# Altium footprint library ST-Microelectronics Footprints.PcbLib: 320 footprints (part 11 of 20)
Each footprint in its own frame and in the unit in brackets; x right, y up, seen from the top. Pads: shape width x height; smd on the part's side, far side on the other; paste and mask are expansions set on the pad; w line width, h text height; cw(c..) or ccw(c..) is an arc to the next point about the centre after c.
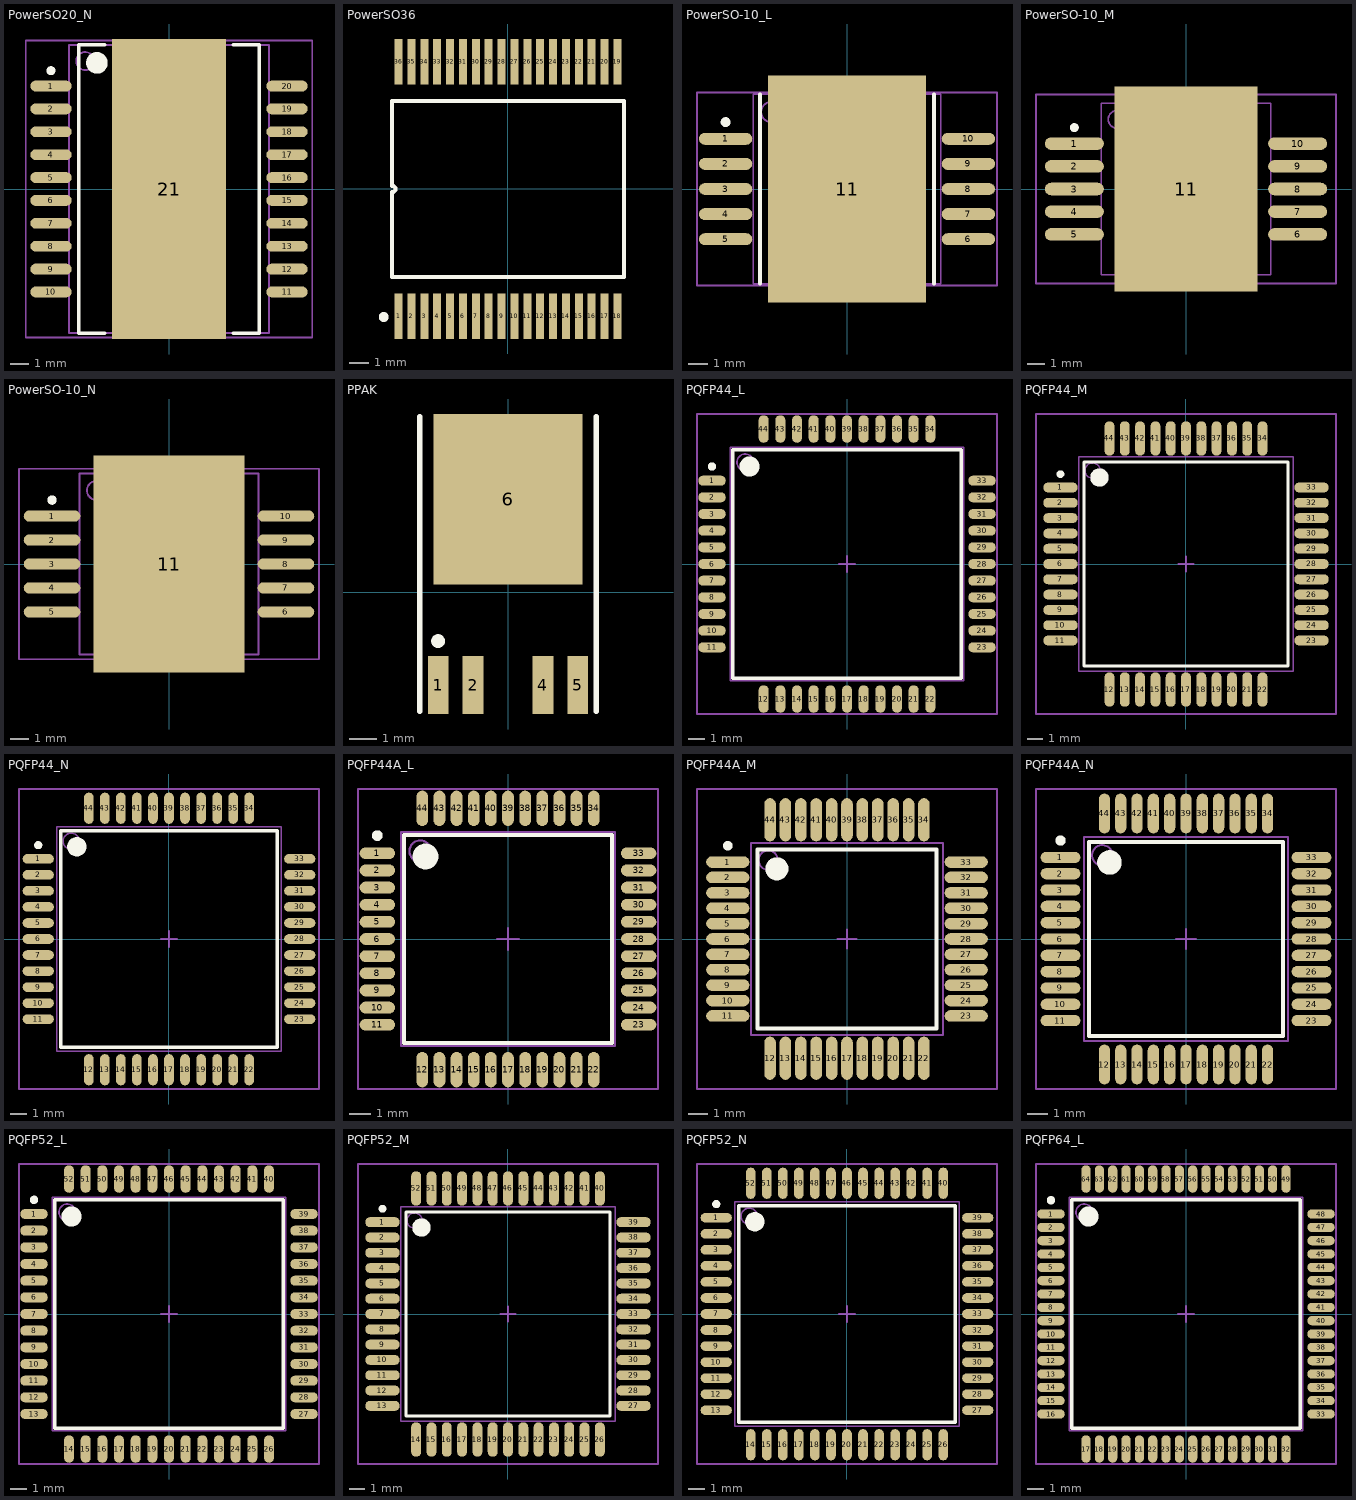
[diagram p10: the footprints below, top view; thin cyan lines are the x and y axes]

## PowerSO20_N [mm] "20-Pin Small Outline Package 1.27 mm Pitch, IPC Medium Density"
height 3.6
pads (21):
  oval 2.3x0.6 smd: 1(-6.55,5.715) 2(-6.55,4.445) 3(-6.55,3.175) 4(-6.55,1.905) 5(-6.55,0.635) 6(-6.55,-0.635) 7(-6.55,-1.905) 8(-6.55,-3.175) 9(-6.55,-4.445) 10(-6.55,-5.715) 11(6.55,-5.715) 12(6.55,-4.445) 13(6.55,-3.175) 14(6.55,-1.905) 15(6.55,-0.635) 16(6.55,0.635) 17(6.55,1.905) 18(6.55,3.175) 19(6.55,4.445) 20(6.55,5.715)
  rect 6.35x16.65 smd: 21(0,0)
Top Overlay:
  circle w0.25: c-6.55,6.565 r0.125
  circle w0.6: c-4,7 r0.3
  lines w0.2: -3.575,-8 -5,-8 -5,8 -3.575,8 ; 3.575,-8 5,-8 5,8 3.575,8
Mechanical 13:
  circle w0.1: c-4.65,7.1 r0.5
  lines w0.1: -5.55,-8 -5.55,8 5.55,8 5.55,-8 -5.55,-8
Mechanical 15:
  lines w0.1: -0.5,0 0.5,0 ; 0,-0.5 0,0.5 ; -7.95,-8.25 -7.95,8.25 7.95,8.25 7.95,-8.25 -7.95,-8.25
3D body: height 3.6, standoff 0, extent -5.55,-8 5.55,8

## PowerSO36 [mm] "SSOP; 36 Leads; Body Width 11 mm; Pitch 0.65 mm"
height 3.6
pads (36):
  rect 0.4x2.3 smd: 1(-5.525,-6.425) 2(-4.875,-6.425) 3(-4.225,-6.425) 4(-3.575,-6.425) 5(-2.925,-6.425) 6(-2.275,-6.425) 7(-1.625,-6.425) 8(-0.975,-6.425) 9(-0.325,-6.425) 10(0.325,-6.425) 11(0.975,-6.425) 12(1.625,-6.425) 13(2.275,-6.425) 14(2.925,-6.425) 15(3.575,-6.425) 16(4.225,-6.425) 17(4.875,-6.425) 18(5.525,-6.425) 19(5.525,6.425) 20(4.875,6.425) 21(4.225,6.425) 22(3.575,6.425) 23(2.925,6.425) 24(2.275,6.425) 25(1.625,6.425) 26(0.975,6.425) 27(0.325,6.425) 28(-0.325,6.425) 29(-0.975,6.425) 30(-1.625,6.425) 31(-2.275,6.425) 32(-2.925,6.425) 33(-3.575,6.425) 34(-4.225,6.425) 35(-4.875,6.425) 36(-5.525,6.425)
Top Overlay:
  circle w0.25: c-6.275,-6.465 r0.125
  lines w0.2: -5.85,-4.44 5.85,-4.44 5.85,4.44 -5.85,4.44 -5.85,0.162 cw(c-5.85,0) -5.85,-0.162 -5.85,-4.44

## PowerSO-10_L [mm] "10-Pin Small Outline Package 1.27 mm Pitch, IPC High Density"
height 3.71
pads (11):
  oval 2.7x0.6 smd: 1(-6.15,2.54) 2(-6.15,1.27) 3(-6.15,0) 4(-6.15,-1.27) 5(-6.15,-2.54) 6(6.15,-2.54) 7(6.15,-1.27) 8(6.15,0) 9(6.15,1.27) 10(6.15,2.54)
  rect 8x11.5 smd: 11(0,0)
Top Overlay:
  circle w0.25: c-6.15,3.39 r0.125
  lines w0.2: -4.4,-4.8 -4.4,4.8 ; 4.4,-4.8 4.4,4.8
Mechanical 13:
  circle w0.1: c-3.85,3.9 r0.5
  lines w0.1: -4.75,-4.8 4.75,-4.8 4.75,4.8 -4.75,4.8 -4.75,-4.8
Mechanical 15:
  lines w0.1: -0.5,0 0.5,0 ; 0,-0.5 0,0.5 ; -7.6,-4.9 7.6,-4.9 7.6,4.9 -7.6,4.9 -7.6,-4.9
3D body: height 3.71, standoff 0, extent -4.75,-4.8 4.75,4.8

## PowerSO-10_M [mm] "10-Pin Small Outline Package 1.27 mm Pitch, IPC Low Density"
height 3.71
pads (11):
  oval 3.3x0.7 smd: 1(-6.25,2.54) 2(-6.25,1.27) 3(-6.25,0) 4(-6.25,-1.27) 5(-6.25,-2.54) 6(6.25,-2.54) 7(6.25,-1.27) 8(6.25,0) 9(6.25,1.27) 10(6.25,2.54)
  rect 8x11.5 smd: 11(0,0)
Top Overlay:
  circle w0.25: c-6.25,3.44 r0.125
Mechanical 13:
  circle w0.1: c-3.85,3.9 r0.5
  lines w0.1: -4.75,-4.8 -4.75,4.8 4.75,4.8 4.75,-4.8 -4.75,-4.8
Mechanical 15:
  lines w0.1: -0.5,0 0.5,0 ; 0,-0.5 0,0.5 ; -8.4,-5.3 -8.4,5.3 8.4,5.3 8.4,-5.3 -8.4,-5.3
3D body: height 3.71, standoff 0, extent -4.75,-4.8 4.75,4.8

## PowerSO-10_N [mm] "10-Pin Small Outline Package 1.27 mm Pitch, IPC Medium Density"
height 3.71
pads (11):
  oval 3x0.6 smd: 1(-6.2,2.54) 2(-6.2,1.27) 3(-6.2,0) 4(-6.2,-1.27) 5(-6.2,-2.54) 6(6.2,-2.54) 7(6.2,-1.27) 8(6.2,0) 9(6.2,1.27) 10(6.2,2.54)
  rect 8x11.5 smd: 11(0,0)
Top Overlay:
  circle w0.25: c-6.2,3.39 r0.125
Mechanical 13:
  circle w0.1: c-3.85,3.9 r0.5
  lines w0.1: -4.75,-4.8 -4.75,4.8 4.75,4.8 4.75,-4.8 -4.75,-4.8
Mechanical 15:
  lines w0.1: -0.5,0 0.5,0 ; 0,-0.5 0,0.5 ; -7.95,-5.05 -7.95,5.05 7.95,5.05 7.95,-5.05 -7.95,-5.05
3D body: height 3.71, standoff 0, extent -4.75,-4.8 4.75,4.8

## PPAK [mm] "D-PAK; 5 Leads (1 Cropped); Body 10.1 (inc. leads) x 6.6 mm (LxW max)"
height 2.4
pads (5):
  rect 0.75x2.1 smd: 1(-2.54,-3.375) 2(-1.27,-3.375) 4(1.27,-3.375) 5(2.54,-3.375)
  rect 5.4x6.2 smd: 6(0,3.375)
Top Overlay:
  circle w0.25: c-2.54,-1.775 r0.125
  lines w0.2: -3.215,-4.325 -3.215,6.375 ; 3.215,-4.325 3.215,6.375

## PQFP44_L [mm] "44-Pin Quad Flat Pack 1 mm Pitch, IPC High Density"
height 3.4
pads (44):
  oval 1.65x0.6 smd: 1(-8.1,5) 2(-8.1,4) 3(-8.1,3) 4(-8.1,2) 5(-8.1,1) 6(-8.1,0) 7(-8.1,-1) 8(-8.1,-2) 9(-8.1,-3) 10(-8.1,-4) 11(-8.1,-5) 23(8.1,-5) 24(8.1,-4) 25(8.1,-3) 26(8.1,-2) 27(8.1,-1) 28(8.1,0) 29(8.1,1) 30(8.1,2) 31(8.1,3) 32(8.1,4) 33(8.1,5)
  oval 0.6x1.65 smd: 12(-5,-8.1) 13(-4,-8.1) 14(-3,-8.1) 15(-2,-8.1) 16(-1,-8.1) 17(0,-8.1) 18(1,-8.1) 19(2,-8.1) 20(3,-8.1) 21(4,-8.1) 22(5,-8.1) 34(5,8.1) 35(4,8.1) 36(3,8.1) 37(2,8.1) 38(1,8.1) 39(0,8.1) 40(-1,8.1) 41(-2,8.1) 42(-3,8.1) 43(-4,8.1) 44(-5,8.1)
Top Overlay:
  circle w0.6: c-5.85,5.85 r0.3
  circle w0.25: c-8.1,5.85 r0.125
  lines w0.2: -6.85,-6.85 6.85,-6.85 6.85,6.85 -6.85,6.85 -6.85,-6.85
Mechanical 13:
  circle w0.1: c-6.1,6.1 r0.5
  lines w0.1: -7,-7 7,-7 7,7 -7,7 -7,-7
Mechanical 15:
  lines w0.1: -0.5,0 0.5,0 ; 0,-0.5 0,0.5 ; -9,-9 9,-9 9,9 -9,9 -9,-9
3D body: height 3.4, standoff 0, extent -7,-7 7,7

## PQFP44_M [mm] "44-Pin Quad Flat Pack 1 mm Pitch, IPC Low Density"
height 3.4
pads (44):
  oval 2.25x0.65 smd: 1(-8.2,5) 2(-8.2,4) 3(-8.2,3) 4(-8.2,2) 5(-8.2,1) 6(-8.2,0) 7(-8.2,-1) 8(-8.2,-2) 9(-8.2,-3) 10(-8.2,-4) 11(-8.2,-5) 23(8.2,-5) 24(8.2,-4) 25(8.2,-3) 26(8.2,-2) 27(8.2,-1) 28(8.2,0) 29(8.2,1) 30(8.2,2) 31(8.2,3) 32(8.2,4) 33(8.2,5)
  oval 0.65x2.25 smd: 12(-5,-8.2) 13(-4,-8.2) 14(-3,-8.2) 15(-2,-8.2) 16(-1,-8.2) 17(0,-8.2) 18(1,-8.2) 19(2,-8.2) 20(3,-8.2) 21(4,-8.2) 22(5,-8.2) 34(5,8.2) 35(4,8.2) 36(3,8.2) 37(2,8.2) 38(1,8.2) 39(0,8.2) 40(-1,8.2) 41(-2,8.2) 42(-3,8.2) 43(-4,8.2) 44(-5,8.2)
Top Overlay:
  circle w0.6: c-5.65,5.65 r0.3
  circle w0.25: c-8.2,5.875 r0.125
  lines w0.2: -6.65,-6.65 6.65,-6.65 6.65,6.65 -6.65,6.65 -6.65,-6.65
Mechanical 13:
  circle w0.1: c-6.1,6.1 r0.5
  lines w0.1: -7,-7 7,-7 7,7 -7,7 -7,-7
Mechanical 15:
  lines w0.1: -0.5,0 0.5,0 ; 0,-0.5 0,0.5 ; -9.8,-9.8 9.8,-9.8 9.8,9.8 -9.8,9.8 -9.8,-9.8
3D body: height 3.4, standoff 0, extent -7,-7 7,7

## PQFP44_N [mm] "44-Pin Quad Flat Pack 1 mm Pitch, IPC Medium Density"
height 3.4
pads (44):
  oval 1.95x0.6 smd: 1(-8.15,5) 2(-8.15,4) 3(-8.15,3) 4(-8.15,2) 5(-8.15,1) 6(-8.15,0) 7(-8.15,-1) 8(-8.15,-2) 9(-8.15,-3) 10(-8.15,-4) 11(-8.15,-5) 23(8.15,-5) 24(8.15,-4) 25(8.15,-3) 26(8.15,-2) 27(8.15,-1) 28(8.15,0) 29(8.15,1) 30(8.15,2) 31(8.15,3) 32(8.15,4) 33(8.15,5)
  oval 0.6x1.95 smd: 12(-5,-8.15) 13(-4,-8.15) 14(-3,-8.15) 15(-2,-8.15) 16(-1,-8.15) 17(0,-8.15) 18(1,-8.15) 19(2,-8.15) 20(3,-8.15) 21(4,-8.15) 22(5,-8.15) 34(5,8.15) 35(4,8.15) 36(3,8.15) 37(2,8.15) 38(1,8.15) 39(0,8.15) 40(-1,8.15) 41(-2,8.15) 42(-3,8.15) 43(-4,8.15) 44(-5,8.15)
Top Overlay:
  circle w0.6: c-5.75,5.75 r0.3
  circle w0.25: c-8.15,5.85 r0.125
  lines w0.2: -6.75,-6.75 6.75,-6.75 6.75,6.75 -6.75,6.75 -6.75,-6.75
Mechanical 13:
  circle w0.1: c-6.1,6.1 r0.5
  lines w0.1: -7,-7 7,-7 7,7 -7,7 -7,-7
Mechanical 15:
  lines w0.1: -0.5,0 0.5,0 ; 0,-0.5 0,0.5 ; -9.35,-9.35 9.35,-9.35 9.35,9.35 -9.35,9.35 -9.35,-9.35
3D body: height 3.4, standoff 0, extent -7,-7 7,7

## PQFP44A_L [mm] "44-Pin Quad Flat Pack 0.8 mm Pitch, IPC High Density"
height 2.45
pads (44):
  oval 1.65x0.55 smd: 1(-6.1,4) 2(-6.1,3.2) 3(-6.1,2.4) 4(-6.1,1.6) 5(-6.1,0.8) 6(-6.1,0) 7(-6.1,-0.8) 8(-6.1,-1.6) 9(-6.1,-2.4) 10(-6.1,-3.2) 11(-6.1,-4) 23(6.1,-4) 24(6.1,-3.2) 25(6.1,-2.4) 26(6.1,-1.6) 27(6.1,-0.8) 28(6.1,0) 29(6.1,0.8) 30(6.1,1.6) 31(6.1,2.4) 32(6.1,3.2) 33(6.1,4)
  oval 0.55x1.65 smd: 12(-4,-6.1) 13(-3.2,-6.1) 14(-2.4,-6.1) 15(-1.6,-6.1) 16(-0.8,-6.1) 17(0,-6.1) 18(0.8,-6.1) 19(1.6,-6.1) 20(2.4,-6.1) 21(3.2,-6.1) 22(4,-6.1) 34(4,6.1) 35(3.2,6.1) 36(2.4,6.1) 37(1.6,6.1) 38(0.8,6.1) 39(0,6.1) 40(-0.8,6.1) 41(-1.6,6.1) 42(-2.4,6.1) 43(-3.2,6.1) 44(-4,6.1)
Top Overlay:
  circle w0.6: c-3.85,3.85 r0.3
  circle w0.25: c-6.1,4.825 r0.125
  lines w0.2: -4.85,-4.85 4.85,-4.85 4.85,4.85 -4.85,4.85 -4.85,-4.85
Mechanical 13:
  circle w0.1: c-4.1,4.1 r0.5
  lines w0.1: -5,-5 5,-5 5,5 -5,5 -5,-5
Mechanical 15:
  lines w0.1: -0.5,0 0.5,0 ; 0,-0.5 0,0.5 ; -7,-7 7,-7 7,7 -7,7 -7,-7
3D body: height 2.45, standoff 0, extent -5,-5 5,5

## PQFP44A_M [mm] "44-Pin Quad Flat Pack 0.8 mm Pitch, IPC Low Density"
height 2.45
pads (44):
  oval 2.25x0.6 smd: 1(-6.2,4) 2(-6.2,3.2) 3(-6.2,2.4) 4(-6.2,1.6) 5(-6.2,0.8) 6(-6.2,0) 7(-6.2,-0.8) 8(-6.2,-1.6) 9(-6.2,-2.4) 10(-6.2,-3.2) 11(-6.2,-4) 23(6.2,-4) 24(6.2,-3.2) 25(6.2,-2.4) 26(6.2,-1.6) 27(6.2,-0.8) 28(6.2,0) 29(6.2,0.8) 30(6.2,1.6) 31(6.2,2.4) 32(6.2,3.2) 33(6.2,4)
  oval 0.6x2.25 smd: 12(-4,-6.2) 13(-3.2,-6.2) 14(-2.4,-6.2) 15(-1.6,-6.2) 16(-0.8,-6.2) 17(0,-6.2) 18(0.8,-6.2) 19(1.6,-6.2) 20(2.4,-6.2) 21(3.2,-6.2) 22(4,-6.2) 34(4,6.2) 35(3.2,6.2) 36(2.4,6.2) 37(1.6,6.2) 38(0.8,6.2) 39(0,6.2) 40(-0.8,6.2) 41(-1.6,6.2) 42(-2.4,6.2) 43(-3.2,6.2) 44(-4,6.2)
Top Overlay:
  circle w0.6: c-3.65,3.65 r0.3
  circle w0.25: c-6.2,4.85 r0.125
  lines w0.2: -4.65,-4.65 4.65,-4.65 4.65,4.65 -4.65,4.65 -4.65,-4.65
Mechanical 13:
  circle w0.1: c-4.1,4.1 r0.5
  lines w0.1: -5,-5 5,-5 5,5 -5,5 -5,-5
Mechanical 15:
  lines w0.1: -0.5,0 0.5,0 ; 0,-0.5 0,0.5 ; -7.8,-7.8 7.8,-7.8 7.8,7.8 -7.8,7.8 -7.8,-7.8
3D body: height 2.45, standoff 0, extent -5,-5 5,5

## PQFP44A_N [mm] "44-Pin Quad Flat Pack 0.8 mm Pitch, IPC Medium Density"
height 2.45
pads (44):
  oval 1.95x0.55 smd: 1(-6.15,4) 2(-6.15,3.2) 3(-6.15,2.4) 4(-6.15,1.6) 5(-6.15,0.8) 6(-6.15,0) 7(-6.15,-0.8) 8(-6.15,-1.6) 9(-6.15,-2.4) 10(-6.15,-3.2) 11(-6.15,-4) 23(6.15,-4) 24(6.15,-3.2) 25(6.15,-2.4) 26(6.15,-1.6) 27(6.15,-0.8) 28(6.15,0) 29(6.15,0.8) 30(6.15,1.6) 31(6.15,2.4) 32(6.15,3.2) 33(6.15,4)
  oval 0.55x1.95 smd: 12(-4,-6.15) 13(-3.2,-6.15) 14(-2.4,-6.15) 15(-1.6,-6.15) 16(-0.8,-6.15) 17(0,-6.15) 18(0.8,-6.15) 19(1.6,-6.15) 20(2.4,-6.15) 21(3.2,-6.15) 22(4,-6.15) 34(4,6.15) 35(3.2,6.15) 36(2.4,6.15) 37(1.6,6.15) 38(0.8,6.15) 39(0,6.15) 40(-0.8,6.15) 41(-1.6,6.15) 42(-2.4,6.15) 43(-3.2,6.15) 44(-4,6.15)
Top Overlay:
  circle w0.6: c-3.75,3.75 r0.3
  circle w0.25: c-6.15,4.825 r0.125
  lines w0.2: -4.75,-4.75 4.75,-4.75 4.75,4.75 -4.75,4.75 -4.75,-4.75
Mechanical 13:
  circle w0.1: c-4.1,4.1 r0.5
  lines w0.1: -5,-5 5,-5 5,5 -5,5 -5,-5
Mechanical 15:
  lines w0.1: -0.5,0 0.5,0 ; 0,-0.5 0,0.5 ; -7.35,-7.35 7.35,-7.35 7.35,7.35 -7.35,7.35 -7.35,-7.35
3D body: height 2.45, standoff 0, extent -5,-5 5,5

## PQFP52_L [mm] "52-Pin Plastic Quad Flat Pack 1 mm Pitch, IPC High Density"
height 3.4
pads (52):
  oval 1.65x0.6 smd: 1(-8.1,6) 2(-8.1,5) 3(-8.1,4) 4(-8.1,3) 5(-8.1,2) 6(-8.1,1) 7(-8.1,0) 8(-8.1,-1) 9(-8.1,-2) 10(-8.1,-3) 11(-8.1,-4) 12(-8.1,-5) 13(-8.1,-6) 27(8.1,-6) 28(8.1,-5) 29(8.1,-4) 30(8.1,-3) 31(8.1,-2) 32(8.1,-1) 33(8.1,0) 34(8.1,1) 35(8.1,2) 36(8.1,3) 37(8.1,4) 38(8.1,5) 39(8.1,6)
  oval 0.6x1.65 smd: 14(-6,-8.1) 15(-5,-8.1) 16(-4,-8.1) 17(-3,-8.1) 18(-2,-8.1) 19(-1,-8.1) 20(0,-8.1) 21(1,-8.1) 22(2,-8.1) 23(3,-8.1) 24(4,-8.1) 25(5,-8.1) 26(6,-8.1) 40(6,8.1) 41(5,8.1) 42(4,8.1) 43(3,8.1) 44(2,8.1) 45(1,8.1) 46(0,8.1) 47(-1,8.1) 48(-2,8.1) 49(-3,8.1) 50(-4,8.1) 51(-5,8.1) 52(-6,8.1)
Top Overlay:
  circle w0.6: c-5.85,5.85 r0.3
  circle w0.25: c-8.1,6.85 r0.125
  lines w0.2: -6.85,-6.85 6.85,-6.85 6.85,6.85 -6.85,6.85 -6.85,-6.85
Mechanical 13:
  circle w0.1: c-6.1,6.1 r0.5
  lines w0.1: -7,-7 7,-7 7,7 -7,7 -7,-7
Mechanical 15:
  lines w0.1: -0.5,0 0.5,0 ; 0,-0.5 0,0.5 ; -9,-9 9,-9 9,9 -9,9 -9,-9
3D body: height 3.4, standoff 0, extent -7,-7 7,7

## PQFP52_M [mm] "52-Pin Plastic Quad Flat Pack 1 mm Pitch, IPC Low Density"
height 3.4
pads (52):
  oval 2.25x0.65 smd: 1(-8.2,6) 2(-8.2,5) 3(-8.2,4) 4(-8.2,3) 5(-8.2,2) 6(-8.2,1) 7(-8.2,0) 8(-8.2,-1) 9(-8.2,-2) 10(-8.2,-3) 11(-8.2,-4) 12(-8.2,-5) 13(-8.2,-6) 27(8.2,-6) 28(8.2,-5) 29(8.2,-4) 30(8.2,-3) 31(8.2,-2) 32(8.2,-1) 33(8.2,0) 34(8.2,1) 35(8.2,2) 36(8.2,3) 37(8.2,4) 38(8.2,5) 39(8.2,6)
  oval 0.65x2.25 smd: 14(-6,-8.2) 15(-5,-8.2) 16(-4,-8.2) 17(-3,-8.2) 18(-2,-8.2) 19(-1,-8.2) 20(0,-8.2) 21(1,-8.2) 22(2,-8.2) 23(3,-8.2) 24(4,-8.2) 25(5,-8.2) 26(6,-8.2) 40(6,8.2) 41(5,8.2) 42(4,8.2) 43(3,8.2) 44(2,8.2) 45(1,8.2) 46(0,8.2) 47(-1,8.2) 48(-2,8.2) 49(-3,8.2) 50(-4,8.2) 51(-5,8.2) 52(-6,8.2)
Top Overlay:
  circle w0.25: c-8.2,6.875 r0.125
  circle w0.6: c-5.65,5.65 r0.3
  lines w0.2: -6.65,-6.65 -6.65,6.65 6.65,6.65 6.65,-6.65 -6.65,-6.65
Mechanical 13:
  circle w0.1: c-6.1,6.1 r0.5
  lines w0.1: -7,-7 -7,7 7,7 7,-7 -7,-7
Mechanical 15:
  lines w0.1: -0.5,0 0.5,0 ; 0,-0.5 0,0.5 ; -9.8,-9.8 -9.8,9.8 9.8,9.8 9.8,-9.8 -9.8,-9.8
3D body: height 3.4, standoff 0, extent -7,-7 7,7

## PQFP52_N [mm] "52-Pin Plastic Quad Flat Pack 1 mm Pitch, IPC Medium Density"
height 3.4
pads (52):
  oval 1.95x0.6 smd: 1(-8.15,6) 2(-8.15,5) 3(-8.15,4) 4(-8.15,3) 5(-8.15,2) 6(-8.15,1) 7(-8.15,0) 8(-8.15,-1) 9(-8.15,-2) 10(-8.15,-3) 11(-8.15,-4) 12(-8.15,-5) 13(-8.15,-6) 27(8.15,-6) 28(8.15,-5) 29(8.15,-4) 30(8.15,-3) 31(8.15,-2) 32(8.15,-1) 33(8.15,0) 34(8.15,1) 35(8.15,2) 36(8.15,3) 37(8.15,4) 38(8.15,5) 39(8.15,6)
  oval 0.6x1.95 smd: 14(-6,-8.15) 15(-5,-8.15) 16(-4,-8.15) 17(-3,-8.15) 18(-2,-8.15) 19(-1,-8.15) 20(0,-8.15) 21(1,-8.15) 22(2,-8.15) 23(3,-8.15) 24(4,-8.15) 25(5,-8.15) 26(6,-8.15) 40(6,8.15) 41(5,8.15) 42(4,8.15) 43(3,8.15) 44(2,8.15) 45(1,8.15) 46(0,8.15) 47(-1,8.15) 48(-2,8.15) 49(-3,8.15) 50(-4,8.15) 51(-5,8.15) 52(-6,8.15)
Top Overlay:
  circle w0.25: c-8.15,6.85 r0.125
  circle w0.6: c-5.75,5.75 r0.3
  lines w0.2: -6.75,-6.75 -6.75,6.75 6.75,6.75 6.75,-6.75 -6.75,-6.75
Mechanical 13:
  circle w0.1: c-6.1,6.1 r0.5
  lines w0.1: -7,-7 -7,7 7,7 7,-7 -7,-7
Mechanical 15:
  lines w0.1: -0.5,0 0.5,0 ; 0,-0.5 0,0.5 ; -9.35,-9.35 -9.35,9.35 9.35,9.35 9.35,-9.35 -9.35,-9.35
3D body: height 3.4, standoff 0, extent -7,-7 7,7

## PQFP64_L [mm] "64-Pin Plastic Quad Flat Pack 0.8 mm Pitch, IPC High Density"
height 3.4
pads (64):
  oval 1.65x0.55 smd: 1(-8.1,6) 2(-8.1,5.2) 3(-8.1,4.4) 4(-8.1,3.6) 5(-8.1,2.8) 6(-8.1,2) 7(-8.1,1.2) 8(-8.1,0.4) 9(-8.1,-0.4) 10(-8.1,-1.2) 11(-8.1,-2) 12(-8.1,-2.8) 13(-8.1,-3.6) 14(-8.1,-4.4) 15(-8.1,-5.2) 16(-8.1,-6) 33(8.1,-6) 34(8.1,-5.2) 35(8.1,-4.4) 36(8.1,-3.6) 37(8.1,-2.8) 38(8.1,-2) 39(8.1,-1.2) 40(8.1,-0.4) 41(8.1,0.4) 42(8.1,1.2) 43(8.1,2) 44(8.1,2.8) 45(8.1,3.6) 46(8.1,4.4) 47(8.1,5.2) 48(8.1,6)
  oval 0.55x1.65 smd: 17(-6,-8.1) 18(-5.2,-8.1) 19(-4.4,-8.1) 20(-3.6,-8.1) 21(-2.8,-8.1) 22(-2,-8.1) 23(-1.2,-8.1) 24(-0.4,-8.1) 25(0.4,-8.1) 26(1.2,-8.1) 27(2,-8.1) 28(2.8,-8.1) 29(3.6,-8.1) 30(4.4,-8.1) 31(5.2,-8.1) 32(6,-8.1) 49(6,8.1) 50(5.2,8.1) 51(4.4,8.1) 52(3.6,8.1) 53(2.8,8.1) 54(2,8.1) 55(1.2,8.1) 56(0.4,8.1) 57(-0.4,8.1) 58(-1.2,8.1) 59(-2,8.1) 60(-2.8,8.1) 61(-3.6,8.1) 62(-4.4,8.1) 63(-5.2,8.1) 64(-6,8.1)
Top Overlay:
  circle w0.6: c-5.85,5.85 r0.3
  circle w0.25: c-8.1,6.825 r0.125
  lines w0.2: -6.85,-6.85 6.85,-6.85 6.85,6.85 -6.85,6.85 -6.85,-6.85
Mechanical 13:
  circle w0.1: c-6.1,6.1 r0.5
  lines w0.1: -7,-7 7,-7 7,7 -7,7 -7,-7
Mechanical 15:
  lines w0.1: -0.5,0 0.5,0 ; 0,-0.5 0,0.5 ; -9,-9 9,-9 9,9 -9,9 -9,-9
3D body: height 3.4, standoff 0, extent -7,-7 7,7